# EAGLE library part C8051F206 (library micro-silabs)
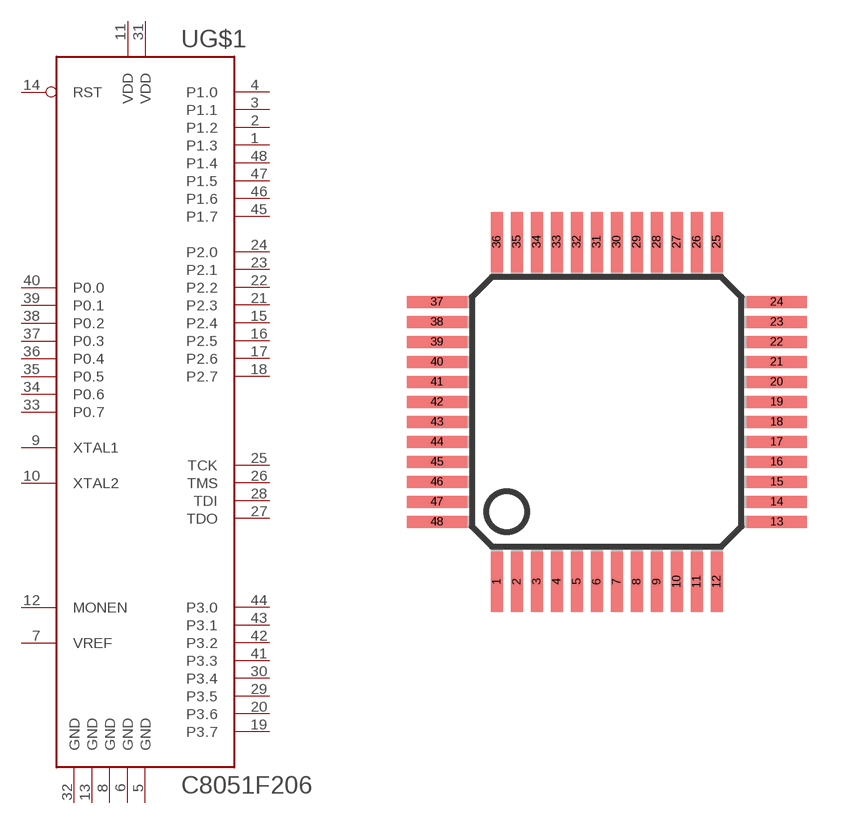
[diagram p30: symbol with the pads of TQFP48; footprint TQFP48]

Designator prefix -; gates G$1=C8051F2XX_48 G$2=VDD G$3=GND G$4=GND G$5=GND G$6=GND

## C8051F206  [TQFP48]
1  G$1:P1.3
2  G$1:P1.2
3  G$1:P1.1
4  G$1:P1.0
5  G$1:GND  pwr
6  G$3:GND  pwr
7  G$1:VREF  in
8  G$4:GND  pwr
9  G$1:XTAL1  in
10  G$1:XTAL2  out
11  G$2:VDD  pwr
12  G$1:MONEN  in
13  G$5:GND  pwr
14  G$1:RST
15  G$1:P2.4
16  G$1:P2.5
17  G$1:P2.6
18  G$1:P2.7
19  G$1:P3.7
20  G$1:P3.6
21  G$1:P2.3
22  G$1:P2.2
23  G$1:P2.1
24  G$1:P2.0
25  G$1:TCK  in
26  G$1:TMS  in
27  G$1:TDO  out
28  G$1:TDI  in
29  G$1:P3.5
30  G$1:P3.4
31  G$1:VDD  pwr
32  G$6:GND  pwr
33  G$1:P0.7
34  G$1:P0.6
35  G$1:P0.5
36  G$1:P0.4
37  G$1:P0.3
38  G$1:P0.2
39  G$1:P0.1
40  G$1:P0.0
41  G$1:P3.3
42  G$1:P3.2
43  G$1:P3.1
44  G$1:P3.0
45  G$1:P1.7
46  G$1:P1.6
47  G$1:P1.5
48  G$1:P1.4

## Footprint TQFP48 (pad centres in mm)
Thin Quad Flat Pack
smd 0.3 x 1.5: 1 -2.75,-4.25; 2 -2.25,-4.25; 3 -1.75,-4.25; 4 -1.25,-4.25; 5 -0.75,-4.25; 6 -0.25,-4.25; 7 0.25,-4.25; 8 0.75,-4.25; 9 1.25,-4.25; 10 1.75,-4.25; 11 2.25,-4.25; 12 2.75,-4.25; 25 2.75,4.25; 26 2.25,4.25; 27 1.75,4.25; 28 1.25,4.25; 29 0.75,4.25; 30 0.25,4.25; 31 -0.25,4.25; 32 -0.75,4.25; 33 -1.25,4.25; 34 -1.75,4.25; 35 -2.25,4.25; 36 -2.75,4.25
smd 1.5 x 0.3: 13 4.25,-2.75; 14 4.25,-2.25; 15 4.25,-1.75; 16 4.25,-1.25; 17 4.25,-0.75; 18 4.25,-0.25; 19 4.25,0.25; 20 4.25,0.75; 21 4.25,1.25; 22 4.25,1.75; 23 4.25,2.25; 24 4.25,2.75; 37 -4.25,2.75; 38 -4.25,2.25; 39 -4.25,1.75; 40 -4.25,1.25; 41 -4.25,0.75; 42 -4.25,0.25; 43 -4.25,-0.25; 44 -4.25,-0.75; 45 -4.25,-1.25; 46 -4.25,-1.75; 47 -4.25,-2.25; 48 -4.25,-2.75